# Altium footprint library DK2.PcbLib: 64 footprints (part 1 of 4)
Each footprint in its own frame and in the unit in brackets; x right, y up, seen from the top. Pads: shape width x height; smd on the part's side, far side on the other; paste and mask are expansions set on the pad; w line width, h text height; cw(c..) or ccw(c..) is an arc to the next point about the centre after c.
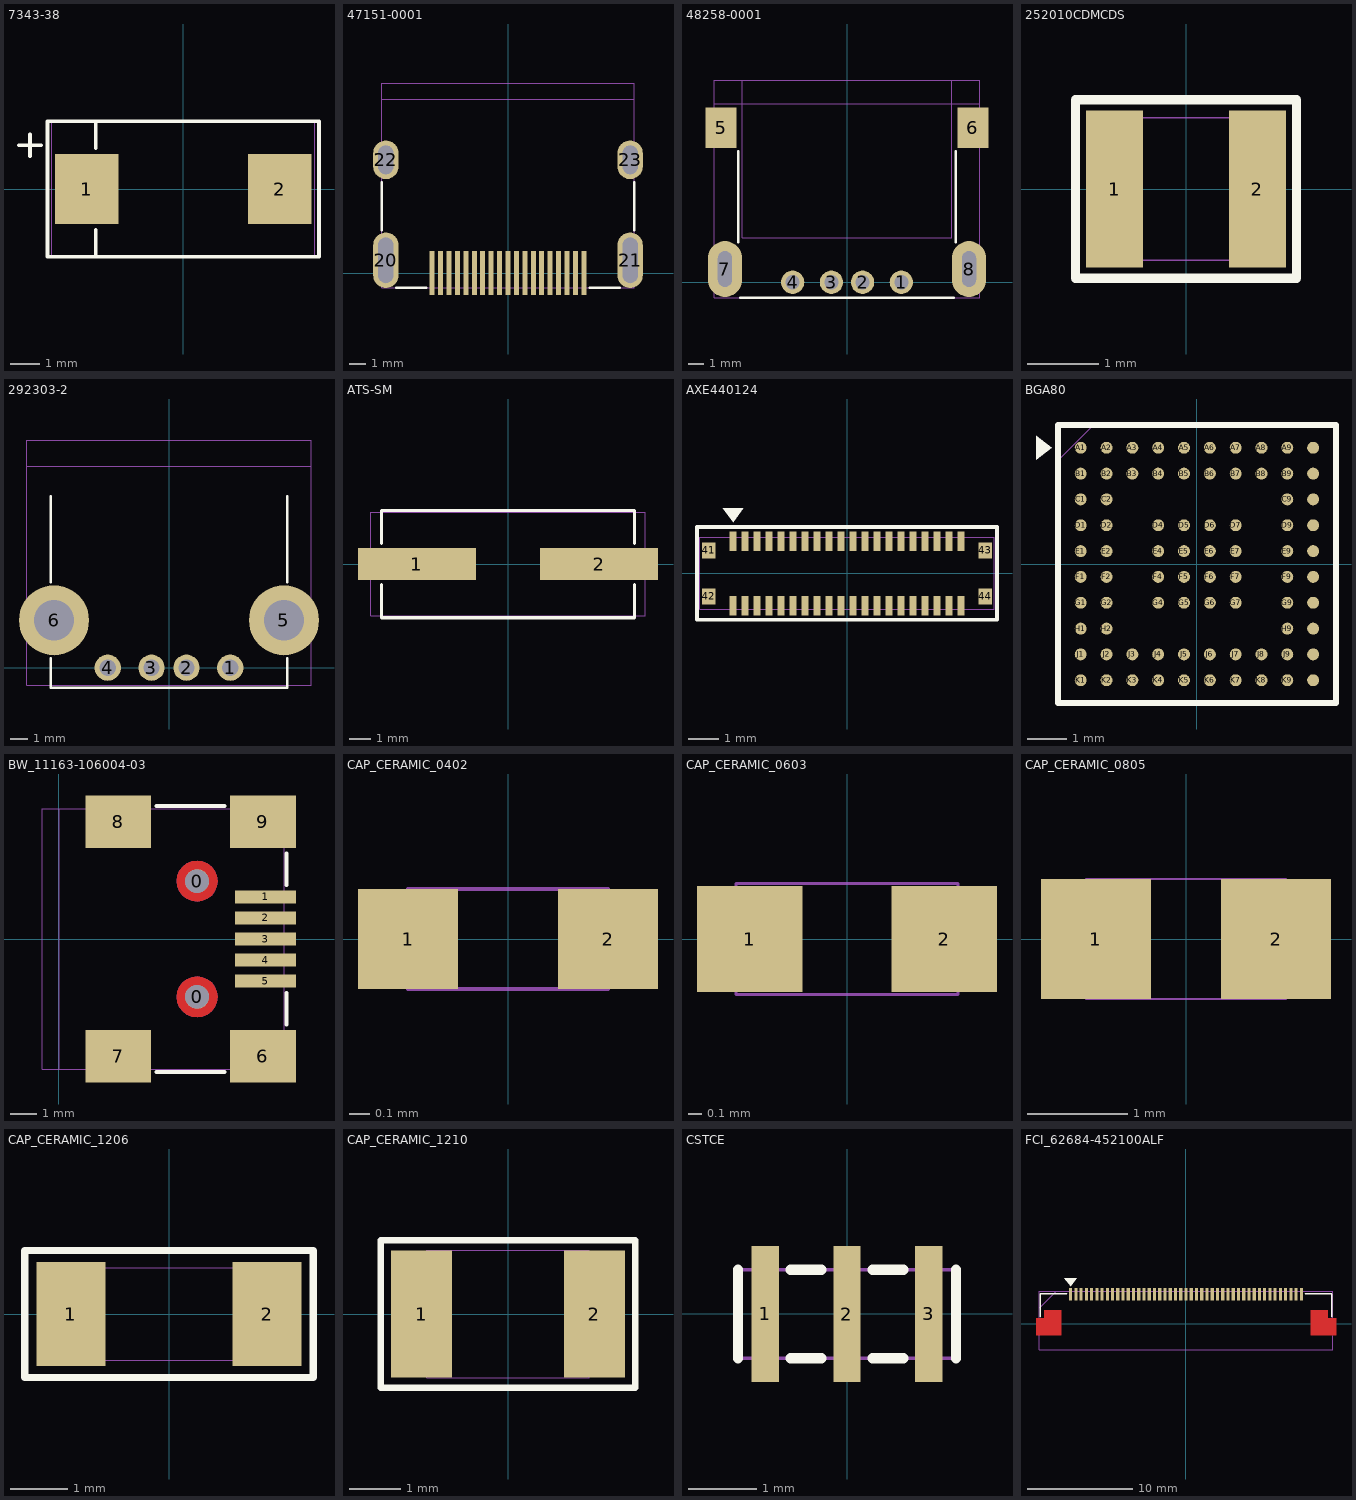
[diagram p0: the footprints below, top view; thin cyan lines are the x and y axes]

## 7343-38 [mm]
pads (2):
  rect 2.16x2.41 smd mask+0.051: 1(-3.305,0) 2(3.305,0)
Top Overlay:
  lines w0.127: -5.625,1.5 -4.875,1.5 ; -5.25,1.125 -5.25,1.875 ; -3,-2.325 -3,-1.4 ; -3,1.4 -3,2.325 ; -4.65,-2.325 4.65,-2.325 4.65,2.325 -4.65,2.325 -4.65,-2.325
Mechanical 1:
  lines w0.02: -4.5,-2.325 4.5,-2.325 4.5,2.325 -4.5,2.325 -4.5,-2.325
3D body: height 3.91, standoff -0.04, extent -4.498,-2.325 4.498,2.328

## 47151-0001 [mm]
pads (23):
  rect 0.3x2.6 smd mask+0.051: 1(-4.5,0) 2(-4,0) 3(-3.5,0) 4(-3,0) 5(-2.5,0) 6(-2,0) 7(-1.5,0) 8(-1,0) 9(-0.5,0) 10(0,0) 11(0.5,0) 12(1,0) 13(1.5,0) 14(2,0) 15(2.5,0) 16(3,0) 17(3.5,0) 18(4,0) 19(4.5,0)
  rrect100% 1.5x3.3 hole 0.9 slot 2.7 at 90 deg mask+0.051: 20(-7.25,0.76) 21(7.25,0.76)
  rrect100% 1.5x2.3 hole 0.9 slot 1.7 at 90 deg mask+0.051: 22(-7.25,6.72) 23(7.25,6.72)
Top Overlay:
  lines w0.15: -7.5,2.55 -7.5,5.4 ; -6.64,-0.87 -4.86,-0.87 ; 4.86,-0.87 6.64,-0.87 ; 7.5,2.55 7.5,5.4
Mechanical 1:
  lines w0.05: -7.5,10.31 7.5,10.31 ; -7.5,-0.87 -7.5,11.275 7.5,11.275 7.5,-0.87 -7.5,-0.87
3D body: height 6.2, standoff -2.18, extent -7.5,-0.875 7.5,11.275

## 48258-0001 [mm]
pads (8):
  round 1.5 hole 0.92 mask+0.051: 1(3.5,0) 2(1,0) 3(-1,0) 4(-3.5,0)
  rect 2x2.6 smd mask+0.051: 5(-8.1,9.95) 6(8.1,9.95)
  oval 2.2x3.6 hole 0.9 slot 2.3 at 90 deg mask+0.051: 7(-7.85,0.85) 8(7.85,0.85)
Top Overlay:
  lines w0.15: -7,2.575 -7,8.425 ; -6.875,-1 6.875,-1 ; 7,2.575 7,8.425
Mechanical 1:
  lines w0.05: -8.55,11.5 8.55,11.5 ; -6.75,13 -6.75,2.85 6.75,2.85 6.75,13 ; -8.55,-1 8.55,-1 8.55,13 -8.55,13 -8.55,-1
3D body: height 4.32, standoff -2.58, extent -8.55,-1 8.55,13

## 252010CDMCDS [mm]
pads (2):
  rect 0.8x2.2 smd mask+0.051: 1(-1,0) 2(1,0)
Top Overlay:
  lines w0.127: -1.55,-1.25 -1.55,1.25 1.55,1.25 1.55,-1.25 -1.55,-1.25
Mechanical 1:
  lines w0.02: -1.25,-1 1.25,-1 1.25,1 -1.25,1 -1.25,-1
3D body: height 1, standoff 0, extent -0.85,-1 0.85,1
3D body: height 1, standoff 0, extent -1.25,-1 -0.85,1
3D body: height 1, standoff 0, extent 0.85,-1 1.25,1

## 292303-2 [mm]
pads (6):
  round 1.5 hole 0.92 mask+0.051: 1(3.5,0) 2(1,0) 3(-1,0) 4(-3.5,0)
  round 4 hole 2.3 mask+0.051: 5(6.57,2.71) 6(-6.57,2.71)
Top Overlay:
  lines w0.15: -6.75,0.55 -6.75,-1.15 6.75,-1.15 6.75,0.55 ; -6.75,4.9 -6.75,9.8 ; 6.75,4.9 6.75,9.8
Mechanical 1:
  lines w0.05: -8.13,11.5 8.1,11.5 ; -8.115,-1 8.115,-1 8.115,13 -8.115,13 -8.115,-1
3D body: height 7.67, standoff -3.6, extent -8.116,-1 8.116,13

## ATS-SM [mm]
pads (2):
  rect 5.5x1.5 smd mask+0.051: 1(-4.25,0) 2(4.25,0)
Top Overlay:
  lines w0.15: -5.9,-0.95 -5.9,-2.51 5.9,-2.51 5.9,-0.95 ; -5.9,0.95 -5.9,2.5 5.9,2.5 5.9,0.95
Mechanical 1:
  lines w0.02: -6.4,-2.42 -6.4,2.41 6.4,2.41 6.4,-2.42 -6.4,-2.42
3D body: height 4.35, standoff 0.05, extent -6.4,-2.415 6.4,2.415

## AXE440124 [mm]
pads (44):
  rect 0.23x0.65 smd paste-0.025 mask+0.051: 1(-3.8,1.075) 2(-3.8,-1.075) 3(-3.4,1.075) 4(-3.4,-1.075) 5(-3,1.075) 6(-3,-1.075) 7(-2.6,1.075) 8(-2.6,-1.075) 9(-2.2,1.075) 10(-2.2,-1.075) 11(-1.8,1.075) 12(-1.8,-1.075) 13(-1.4,1.075) 14(-1.4,-1.075) 15(-1,1.075) 16(-1,-1.075) 17(-0.6,1.075) 18(-0.6,-1.075) 19(-0.2,1.075) 20(-0.2,-1.075) 21(0.2,1.075) 22(0.2,-1.075) 23(0.6,1.075) 24(0.6,-1.075) 25(1,1.075) 26(1,-1.075) 27(1.4,1.075) 28(1.4,-1.075) 29(1.8,1.075) 30(1.8,-1.075) 31(2.2,1.075) 32(2.2,-1.075) 33(2.6,1.075) 34(2.6,-1.075) 35(3,1.075) 36(3,-1.075) 37(3.4,1.075) 38(3.4,-1.075) 39(3.8,1.075) 40(3.8,-1.075)
  rect 0.45x0.53 smd mask+0.051: 41(-4.6,0.765) 42(-4.6,-0.765) 43(4.6,0.765) 44(4.6,-0.765)
Top Overlay:
  region: -3.8,1.7 -4.15,2.175 -3.45,2.175
  lines w0.125: -5,-1.55 -5,1.55 5,1.55 5,-1.55 -5,-1.55
Mechanical 1:
  lines w0.02: -4.9,-1.2 4.9,-1.2 4.9,1.2 -4.9,1.2 -4.9,-1.2
3D body: height 0.46, standoff 0, extent -4.9,-1.2 4.9,1.2

## BGA80 [mm]
pads (80):
  round 0.3 smd mask+0.064: A1(-2.925,2.925) A2(-2.275,2.925) A3(-1.625,2.925) A4(-0.975,2.925) A5(-0.325,2.925) A6(0.325,2.925) A7(0.975,2.925) A8(1.625,2.925) A9(2.275,2.925) A10(2.925,2.925) B1(-2.925,2.275) B2(-2.275,2.275) B3(-1.625,2.275) B4(-0.975,2.275) B5(-0.325,2.275) B6(0.325,2.275) B7(0.975,2.275) B8(1.625,2.275) B9(2.275,2.275) B10(2.925,2.275) C1(-2.925,1.625) C2(-2.275,1.625) C9(2.275,1.625) C10(2.925,1.625) D1(-2.925,0.975) D2(-2.275,0.975) D4(-0.975,0.975) D5(-0.325,0.975) D6(0.325,0.975) D7(0.975,0.975) D9(2.275,0.975) D10(2.925,0.975) E1(-2.925,0.325) E2(-2.275,0.325) E4(-0.975,0.325) E5(-0.325,0.325) E6(0.325,0.325) E7(0.975,0.325) E9(2.275,0.325) E10(2.925,0.325) F1(-2.925,-0.325) F2(-2.275,-0.325) F4(-0.975,-0.325) F5(-0.325,-0.325) F6(0.325,-0.325) F7(0.975,-0.325) F9(2.275,-0.325) F10(2.925,-0.325) G1(-2.925,-0.975) G2(-2.275,-0.975) G4(-0.975,-0.975) G5(-0.325,-0.975) G6(0.325,-0.975) G7(0.975,-0.975) G9(2.275,-0.975) G10(2.925,-0.975) H1(-2.925,-1.625) H2(-2.275,-1.625) H9(2.275,-1.625) H10(2.925,-1.625) J1(-2.925,-2.275) J2(-2.275,-2.275) J3(-1.625,-2.275) J4(-0.975,-2.275) J5(-0.325,-2.275) J6(0.325,-2.275) J7(0.975,-2.275) J8(1.625,-2.275) J9(2.275,-2.275) J10(2.925,-2.275) K1(-2.925,-2.925) K2(-2.275,-2.925) K3(-1.625,-2.925) K4(-0.975,-2.925) K5(-0.325,-2.925) K6(0.325,-2.925) K7(0.975,-2.925) K8(1.625,-2.925) K9(2.275,-2.925) K10(2.925,-2.925)
Top Overlay:
  region: -3.65,2.925 -4.05,2.625 -4.05,3.226
  lines w0.15: -3.5,-3.5 -3.5,3.5 3.5,3.5 3.5,-3.5 -3.5,-3.5
Mechanical 1:
  lines w0.025: -3.5,2.6 -2.6,3.5 ; -3.5,-3.5 3.5,-3.5 3.5,3.5 -3.5,3.5 -3.5,-3.5
3D body: height 0.29, standoff -0.05, extent -3.095,2.756 -2.757,3.094
3D body: height 0.29, standoff -0.05, extent -2.443,2.756 -2.105,3.095
3D body: height 0.29, standoff -0.05, extent -1.793,2.756 -1.455,3.095
3D body: height 0.29, standoff -0.05, extent -1.143,2.756 -0.805,3.095
3D body: height 0.29, standoff -0.05, extent -0.493,2.756 -0.155,3.095
3D body: height 0.29, standoff -0.05, extent 0.157,2.756 0.495,3.095
3D body: height 0.29, standoff -0.05, extent 0.807,2.756 1.145,3.095
3D body: height 0.29, standoff -0.05, extent 1.457,2.756 1.795,3.095
3D body: height 0.29, standoff -0.05, extent 2.107,2.756 2.445,3.095
3D body: height 0.29, standoff -0.05, extent 2.757,2.756 3.095,3.095
3D body: height 0.29, standoff -0.05, extent 2.756,2.105 3.095,2.443
3D body: height 0.29, standoff -0.05, extent 2.105,2.105 2.443,2.444
3D body: height 0.29, standoff -0.05, extent -0.495,2.105 -0.157,2.444
3D body: height 0.29, standoff -0.05, extent 0.155,2.105 0.493,2.444
3D body: height 0.29, standoff -0.05, extent -1.145,2.105 -0.807,2.444
3D body: height 0.29, standoff -0.05, extent -1.795,2.105 -1.457,2.444
3D body: height 0.29, standoff -0.05, extent -2.445,2.105 -2.107,2.444
3D body: height 0.29, standoff -0.05, extent -3.095,2.105 -2.757,2.444
3D body: height 0.29, standoff -0.05, extent -2.445,1.455 -2.107,1.794
3D body: height 0.29, standoff -0.05, extent -3.095,1.455 -2.757,1.794
3D body: height 0.29, standoff -0.05, extent -2.445,0.805 -2.107,1.144
3D body: height 0.29, standoff -0.05, extent -3.095,0.805 -2.757,1.144
3D body: height 0.29, standoff -0.05, extent -1.143,0.806 -0.805,1.145
3D body: height 0.29, standoff -0.05, extent -0.493,0.806 -0.155,1.145
3D body: height 0.29, standoff -0.05, extent 0.157,0.806 0.495,1.145
3D body: height 0.29, standoff -0.05, extent 1.457,2.106 1.795,2.445
3D body: height 0.29, standoff -0.05, extent 0.807,2.106 1.145,2.445
3D body: height 0.29, standoff -0.05, extent 0.807,0.806 1.145,1.145
3D body: height 0.29, standoff -0.05, extent 2.107,1.456 2.445,1.795
3D body: height 0.29, standoff -0.05, extent 2.757,1.456 3.095,1.795
3D body: height 0.29, standoff -0.05, extent 2.757,0.806 3.095,1.145
3D body: height 0.29, standoff -0.05, extent 2.107,0.806 2.445,1.145
3D body: height 0.29, standoff -0.05, extent 2.107,0.156 2.445,0.495
3D body: height 0.29, standoff -0.05, extent 2.757,0.156 3.095,0.495
3D body: height 0.29, standoff -0.05, extent 2.756,-0.495 3.095,-0.157
3D body: height 0.29, standoff -0.05, extent 0.805,0.155 1.143,0.494
3D body: height 0.29, standoff -0.05, extent 0.805,-0.495 1.143,-0.156
3D body: height 0.29, standoff -0.05, extent 0.155,-0.495 0.493,-0.156
3D body: height 0.29, standoff -0.05, extent 0.155,0.155 0.493,0.494
3D body: height 0.29, standoff -0.05, extent -0.495,-0.495 -0.157,-0.156
3D body: height 0.29, standoff -0.05, extent -0.495,0.155 -0.157,0.494
3D body: height 0.29, standoff -0.05, extent -1.145,0.155 -0.807,0.494
3D body: height 0.29, standoff -0.05, extent -2.445,0.155 -2.107,0.494
3D body: height 0.29, standoff -0.05, extent -3.095,0.155 -2.757,0.494
3D body: height 0.29, standoff -0.05, extent -1.145,-0.495 -0.807,-0.156
3D body: height 0.29, standoff -0.05, extent -3.095,-0.494 -2.757,-0.156
3D body: height 0.29, standoff -0.05, extent -2.443,-0.494 -2.105,-0.155
3D body: height 0.29, standoff -0.05, extent -3.094,-1.145 -2.755,-0.807
3D body: height 0.29, standoff -0.05, extent -3.094,-1.795 -2.755,-1.457
3D body: height 0.29, standoff -0.05, extent -2.443,-1.144 -2.105,-0.805
3D body: height 0.29, standoff -0.05, extent -2.443,-1.794 -2.105,-1.455
3D body: height 0.29, standoff -0.05, extent -1.143,-1.144 -0.805,-0.805
3D body: height 0.29, standoff -0.05, extent -0.493,-1.144 -0.155,-0.805
3D body: height 0.29, standoff -0.05, extent 0.157,-1.144 0.495,-0.805
3D body: height 0.29, standoff -0.05, extent 0.807,-1.144 1.145,-0.805
3D body: height 0.29, standoff -0.05, extent 2.107,-1.794 2.445,-1.455
3D body: height 0.29, standoff -0.05, extent 2.106,-2.445 2.445,-2.107
3D body: height 0.29, standoff -0.05, extent 1.455,-2.445 1.793,-2.106
3D body: height 0.29, standoff -0.05, extent 0.805,-2.445 1.143,-2.106
3D body: height 0.29, standoff -0.05, extent 0.155,-2.445 0.493,-2.106
3D body: height 0.29, standoff -0.05, extent -0.495,-2.445 -0.157,-2.106
3D body: height 0.29, standoff -0.05, extent -1.145,-2.445 -0.807,-2.106
3D body: height 0.29, standoff -0.05, extent -1.795,-2.445 -1.457,-2.106
3D body: height 0.29, standoff -0.05, extent -3.095,-2.445 -2.757,-2.106
3D body: height 0.29, standoff -0.05, extent -2.443,-2.444 -2.105,-2.105
3D body: height 0.29, standoff -0.05, extent -3.094,-3.095 -2.755,-2.757
3D body: height 0.29, standoff -0.05, extent -2.443,-3.094 -2.105,-2.755
3D body: height 0.29, standoff -0.05, extent -1.793,-3.094 -1.455,-2.755
3D body: height 0.29, standoff -0.05, extent -1.143,-3.094 -0.805,-2.755
3D body: height 0.29, standoff -0.05, extent -0.493,-3.094 -0.155,-2.755
3D body: height 0.29, standoff -0.05, extent -0.493,-3.094 -0.155,-2.755
3D body: height 0.29, standoff -0.05, extent 0.157,-3.094 0.495,-2.755
3D body: height 0.29, standoff -0.05, extent 0.807,-3.094 1.145,-2.755
3D body: height 0.29, standoff -0.05, extent 1.457,-3.094 1.795,-2.755
3D body: height 0.29, standoff -0.05, extent 2.107,-3.094 2.445,-2.755
3D body: height 0.29, standoff -0.05, extent 2.757,-3.094 3.095,-2.755
3D body: height 0.29, standoff -0.05, extent 2.757,-1.794 3.095,-1.455
3D body: height 0.29, standoff -0.05, extent 2.756,-2.445 3.095,-2.107
3D body: height 0.29, standoff -0.05, extent 2.105,-1.143 2.444,-0.805
3D body: height 0.29, standoff -0.05, extent 2.105,-0.493 2.444,-0.155
3D body: height 0.29, standoff -0.05, extent 2.757,-1.144 3.095,-0.805
3D body: height 1, standoff 0.25, extent -3.5,-3.5 3.5,3.5

## BW_11163-106004-03 [mm]
pads (11):
  round 0.9 hole 0.9 unplated mask+0.076: 0(5.25,-2.2) 0(5.25,2.2)
  rect 2.3x0.5 smd mask+0.064: 1(7.85,1.6) 2(7.85,0.8) 3(7.85,0) 4(7.85,-0.8) 5(7.85,-1.6)
  rect 2.5x2 smd paste-3 mask+0.064: 6(7.75,-4.45) 7(2.25,-4.45) 8(2.25,4.45) 9(7.75,4.45)
Top Layer:
  pour cut-out: 5.25,-1.418 5.452,-1.445 5.641,-1.523 5.803,-1.647 5.927,-1.809 6.005,-1.998 6.032,-2.2 6.005,-2.402 5.927,-2.591 5.803,-2.753 5.641,-2.877 5.452,-2.955 5.25,-2.982 5.25,-2.975 5.25,-2.982 5.048,-2.955 4.859,-2.877 4.697,-2.753 4.573,-2.591 4.495,-2.402 4.468,-2.2 4.495,-1.998 4.573,-1.809 4.697,-1.647 4.859,-1.523 5.048,-1.445 5.25,-1.418 5.25,-1.425
  pour cut-out: 5.25,2.982 5.452,2.955 5.641,2.877 5.803,2.753 5.927,2.591 6.005,2.402 6.032,2.2 6.005,1.998 5.927,1.809 5.803,1.647 5.641,1.523 5.452,1.445 5.25,1.418 5.25,1.425 5.25,1.418 5.048,1.445 4.859,1.523 4.697,1.647 4.573,1.809 4.495,1.998 4.468,2.2 4.495,2.402 4.573,2.591 4.697,2.753 4.859,2.877 5.048,2.955 5.25,2.982 5.25,2.975
Bottom Layer:
  pour cut-out: 5.25,-1.418 5.452,-1.445 5.641,-1.523 5.803,-1.647 5.927,-1.809 6.005,-1.998 6.032,-2.2 6.005,-2.402 5.927,-2.591 5.803,-2.753 5.641,-2.877 5.452,-2.955 5.25,-2.982 5.25,-2.975 5.25,-2.982 5.048,-2.955 4.859,-2.877 4.697,-2.753 4.573,-2.591 4.495,-2.402 4.468,-2.2 4.495,-1.998 4.573,-1.809 4.697,-1.647 4.859,-1.523 5.048,-1.445 5.25,-1.418 5.25,-1.425
  pour cut-out: 5.25,2.982 5.452,2.955 5.641,2.877 5.803,2.753 5.927,2.591 6.005,2.402 6.032,2.2 6.005,1.998 5.927,1.809 5.803,1.647 5.641,1.523 5.452,1.445 5.25,1.418 5.25,1.425 5.25,1.418 5.048,1.445 4.859,1.523 4.697,1.647 4.573,1.809 4.495,1.998 4.468,2.2 4.495,2.402 4.573,2.591 4.697,2.753 4.859,2.877 5.048,2.955 5.25,2.982 5.25,2.975
Top Overlay:
  lines w0.15: 3.7,-5.05 6.3,-5.05 ; 3.7,5.05 6.3,5.05 ; 8.65,-3.25 8.65,-2.05 ; 8.65,2.05 8.65,3.25
Top Paste:
  region: 1,5.45 1,4.525 2.17,4.525 2.17,5.45
  region: 2.33,5.45 2.33,4.525 3.5,4.525 3.5,5.45
  region: 1,4.375 1,3.45 2.17,3.45 2.17,4.375
  region: 2.33,4.375 2.33,3.45 3.5,3.45 3.5,4.375
  region: 2.33,-4.525 2.33,-5.45 3.5,-5.45 3.5,-4.525
  region: 1,-4.525 1,-5.45 2.17,-5.45 2.17,-4.525
  region: 2.33,-3.45 2.33,-4.375 3.5,-4.375 3.5,-3.45
  region: 1,-3.45 1,-4.375 2.17,-4.375 2.17,-3.45
  region: 7.83,-4.525 7.83,-5.45 9,-5.45 9,-4.525
  region: 6.5,-4.525 6.5,-5.45 7.67,-5.45 7.67,-4.525
  region: 7.83,-3.45 7.83,-4.375 9,-4.375 9,-3.45
  region: 6.5,-3.45 6.5,-4.375 7.67,-4.375 7.67,-3.45
  region: 7.83,4.375 7.83,3.45 9,3.45 9,4.375
  region: 6.5,4.375 6.5,3.45 7.67,3.45 7.67,4.375
  region: 7.83,5.45 7.83,4.525 9,4.525 9,5.45
  region: 6.5,5.45 6.5,4.525 7.67,4.525 7.67,5.45
Mechanical 1:
  lines w0.04: 0.003,-4.95 0.003,4.95 ; -0.635,-4.95 8.565,-4.95 8.565,4.95 -0.635,4.95 -0.635,-4.95
3D body: height 4.17, standoff -0.92, extent -0.635,-4.95 8.565,4.95

## CAP_CERAMIC_0402 [mm]
pads (2):
  rect 0.5x0.5 smd mask+0.051: 1(-0.5,0) 2(0.5,0)
Mechanical 1:
  lines w0.02: -0.5,-0.25 -0.5,0.25 0.5,0.25 0.5,-0.25 -0.5,-0.25
3D body: height 0.56, standoff 0, extent -0.5,-0.25 0.5,0.25

## CAP_CERAMIC_0603 [mil]
pads (2):
  rect 30x30 smd mask+2: 1(-27.56,0) 2(27.56,0)
Mechanical 1:
  lines w0.79: -31.5,-15.75 31.5,-15.75 31.5,15.75 -31.5,15.75 -31.5,-15.75
3D body: height 21.65, standoff 0, extent -31.5,-15.75 31.5,15.75

## CAP_CERAMIC_0805 [mm]
pads (2):
  rect 1.1x1.2 smd mask+0.051: 1(-0.9,0) 2(0.9,0)
Mechanical 1:
  lines w0.02: -1,-0.6 1,-0.6 1,0.6 -1,0.6 -1,-0.6
3D body: height 0.7, standoff 0, extent -1,-0.6 1,0.6

## CAP_CERAMIC_1206 [mm]
pads (2):
  rect 1.2x1.8 smd mask+0.051: 1(-1.7,0) 2(1.7,0)
Top Overlay:
  lines w0.125: -2.5,-1.1 -2.5,1.1 2.5,1.1 2.5,-1.1 -2.5,-1.1
Mechanical 1:
  lines w0.02: -1.6,-0.8 -1.6,0.8 1.6,0.8 1.6,-0.8 -1.6,-0.8
3D body: height 0.98, standoff -0.02, extent -1.6,-0.8 1.6,0.8

## CAP_CERAMIC_1210 [mm]
pads (2):
  rect 1.2x2.5 smd mask+0.051: 1(-1.7,0) 2(1.7,0)
Top Overlay:
  lines w0.125: -2.5,-1.45 2.5,-1.45 2.5,1.45 -2.5,1.45 -2.5,-1.45
Mechanical 1:
  lines w0.02: -1.6,-1.25 1.6,-1.25 1.6,1.25 -1.6,1.25 -1.6,-1.25
3D body: height 2.5, standoff 0, extent -1.6,-1.25 1.6,1.25

## CSTCE [mm]
pads (3):
  rect 0.4x2 smd mask+0.064: 1(-1.2,0) 2(0,0) 3(1.2,0)
Top Overlay:
  lines w0.15: -1.6,-0.65 -1.6,0.65 ; -0.825,-0.65 -0.375,-0.65 ; -0.825,0.65 -0.375,0.65 ; 0.375,-0.65 0.825,-0.65 ; 0.375,0.65 0.825,0.65 ; 1.6,-0.65 1.6,0.65
Mechanical 1:
  lines w0.05: -1.6,-0.65 1.6,-0.65 1.6,0.65 -1.6,0.65 -1.6,-0.65
3D body: height 0.7, standoff 0, extent -1.6,-0.65 1.6,0.65

## FCI_62684-452100ALF [mm]
pads (45):
  rect 0.3x1.2 smd paste-0.025 mask+0.05: 1(-11,2.8) 2(-10.5,2.8) 3(-10,2.8) 4(-9.5,2.8) 5(-9,2.8) 6(-8.5,2.8) 7(-8,2.8) 8(-7.5,2.8) 9(-7,2.8) 10(-6.5,2.8) 11(-6,2.8) 12(-5.5,2.8) 13(-5,2.8) 14(-4.5,2.8) 15(-4,2.8) 16(-3.5,2.8) 17(-3,2.8) 18(-2.5,2.8) 19(-2,2.8) 20(-1.5,2.8) 21(-1,2.8) 22(-0.5,2.8) 23(0,2.8) 24(0.5,2.8) 25(1,2.8) 26(1.5,2.8) 27(2,2.8) 28(2.5,2.8) 29(3,2.8) 30(3.5,2.8) 31(4,2.8) 32(4.5,2.8) 33(5,2.8) 34(5.5,2.8) 35(6,2.8) 36(6.5,2.8) 37(7,2.8) 38(7.5,2.8) 39(8,2.8) 40(8.5,2.8) 41(9,2.8) 42(9.5,2.8) 43(10,2.8) 44(10.5,2.8) 45(11,2.8)
Top Layer:
  region: -14.3,-1.1 -11.9,-1.1 -11.9,1.3 -13.5,1.3 -13.5,0.5 -14.3,0.5
  region: 14.3,-1.1 11.9,-1.1 11.9,1.3 13.5,1.3 13.5,0.5 14.3,0.5
Top Overlay:
  region: -11,3.55 -11.6,4.35 -10.4,4.35
  lines w0.15: -13.894,0.675 -13.894,2.837 -11.35,2.837 ; 11.35,2.837 13.894,2.837 13.894,0.675
Mechanical 1:
  lines w0.025: -14,1.475 -12.375,3.1 ; -14,-2.5 14,-2.5 14,3.1 -14,3.1 -14,-2.5
3D body: height 2, standoff -0.05, extent -14,-2.5 14,3.1